# Altium footprint library HMC1001_PCB_FreeSize_V1_1.PcbLib: 28 footprints (part 2 of 2)
Each footprint in its own frame and in the unit in brackets; x right, y up, seen from the top. Pads: shape width x height; smd on the part's side, far side on the other; paste and mask are expansions set on the pad; w line width, h text height; cw(c..) or ccw(c..) is an arc to the next point about the centre after c.
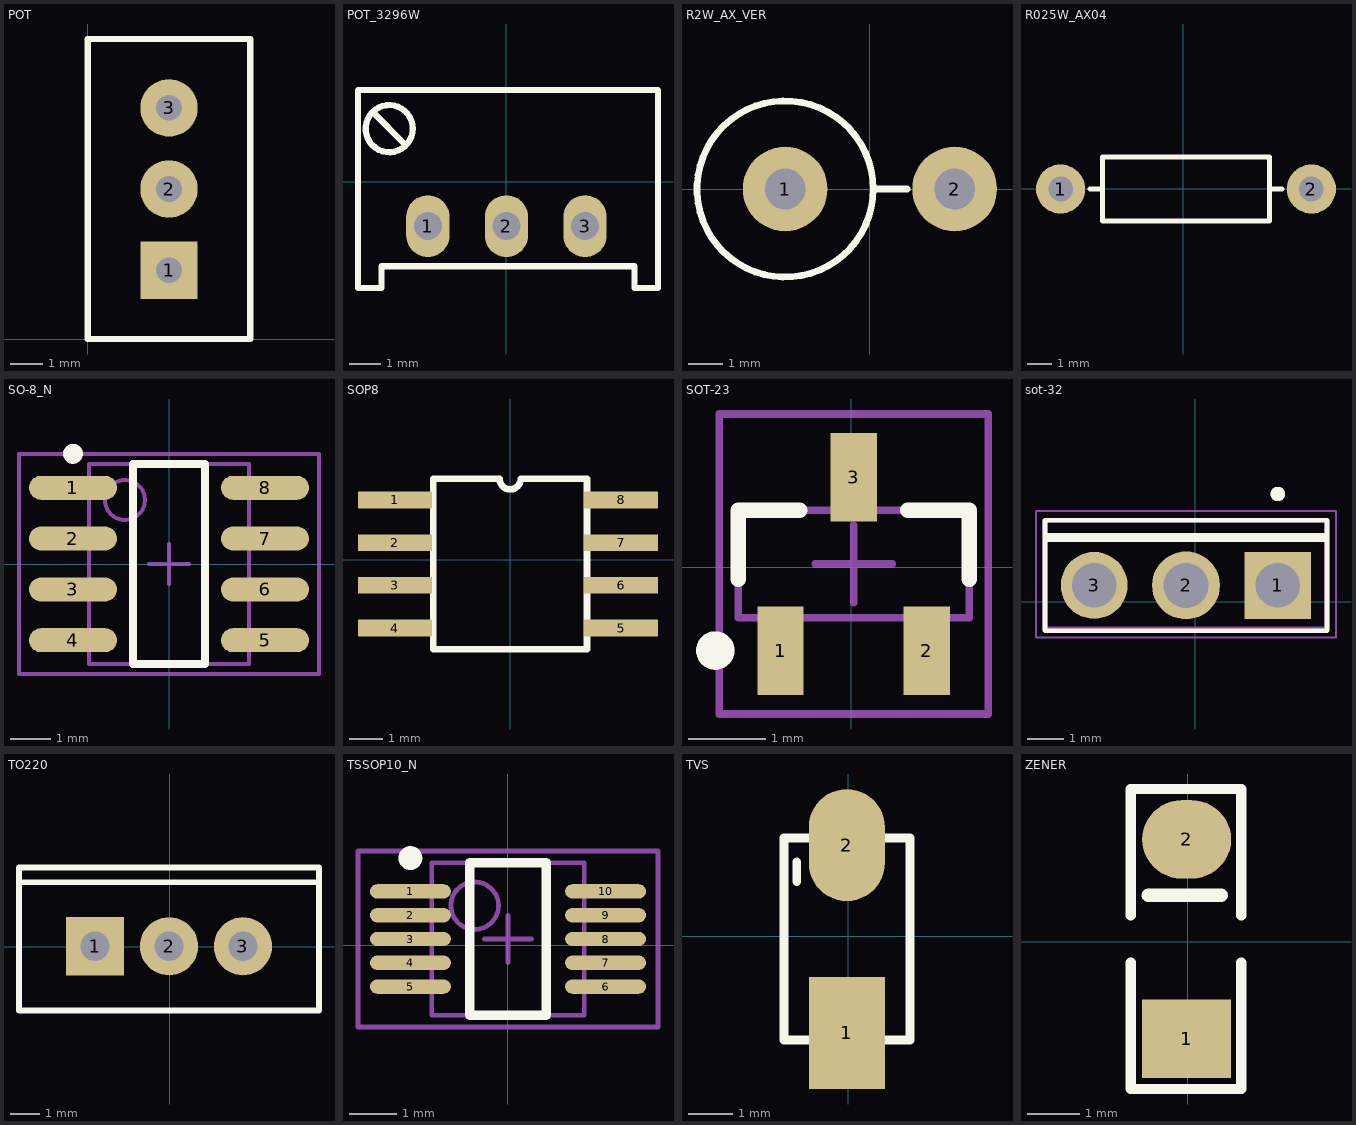
[diagram p1: the footprints below, top view; thin cyan lines are the x and y axes]

## POT [mm]
pads (3):
  rect 1.8x1.8 hole 0.8: 1(2.54,2.159)
  round 1.8 hole 0.8: 2(2.54,4.699) 3(2.54,7.239)
Top Overlay:
  lines w0.2: 0,0 5.08,0 5.08,9.398 0,9.398 0,0

## POT_3296W [mm] "POT, TRIM, 10.0X5.0mm, pitch: 2.5mm 3299W 3296W S64W"
pads (3):
  oval 1.4x2 / inner round 1.2 / far side oval 1.4x2 hole 0.9: 1(-2.537,-1.43) 2(0.003,-1.43) 3(2.543,-1.43)
Top Overlay:
  circle w0.2: c-3.788,1.721 r0.762
  lines w0.2: -4.296,2.229 -3.28,1.213 ; -4.797,-3.43 -4.797,2.97 4.903,2.97 4.903,-3.43 4.148,-3.43 4.148,-2.73 -4.042,-2.73 -4.042,-3.43 -4.797,-3.43
3D body: height 11.56, standoff -6.22, extent -4.722,-3.278 4.803,2.818

## R2W_AX_VER [mm] "RESISTOR 2 WATT, AXIAL0.8"
height 5.5
pads (2):
  round 2.5 hole 1.2: 1(-2.5,0) 2(2.5,0)
Top Overlay:
  circle w0.2: c-2.5,0 r2.6
  lines w0.2: 0.191,0 1.1,0
3D body: height 20.3, standoff -3.1, extent -5,-2.5 2.9,2.5

## R025W_AX04 [mm] "RESISTOR 1/4 WATT, AXIAL0.4"
pads (2):
  round 2 hole 1: 1(-4.997,-0.019) 2(5.203,-0.019)
Top Overlay:
  lines w0.2: -3.797,-0.019 -3.297,-0.019 ; 3.478,-1.319 -3.297,-1.319 -3.297,1.281 3.478,1.281 ; 3.503,-1.319 3.503,1.281 ; 3.503,-0.019 4.003,-0.019
3D body: height 2.6, standoff -2.54, extent -5.277,-1.296 5.483,1.258

## SO-8_N [mm] "SOIC, 8-Leads, Body 4.9x3.9mm, Pitch 1.27mm, IPC Medium Density"
height 1.75
pads (8):
  oval 2.2x0.6 smd: 1(-2.4,1.905) 2(-2.4,0.635) 3(-2.4,-0.635) 4(-2.4,-1.905) 5(2.4,-1.905) 6(2.4,-0.635) 7(2.4,0.635) 8(2.4,1.905)
Top Overlay:
  circle w0.25: c-2.4,2.755 r0.125
  lines w0.2: -0.9,-2.5 0.9,-2.5 0.9,2.5 -0.9,2.5 -0.9,-2.5
Mechanical 13:
  circle w0.1: c-1.1,1.6 r0.5
  lines w0.1: -2,-2.5 2,-2.5 2,2.5 -2,2.5 -2,-2.5
Mechanical 15:
  lines w0.1: -0.5,0 0.5,0 ; 0,-0.5 0,0.5 ; -3.75,-2.75 3.75,-2.75 3.75,2.75 -3.75,2.75 -3.75,-2.75
3D body: height 1.75, standoff 0, extent -2,-2.5 2,2.5

## SOP8 [mm]
pads (8):
  rect 2.2x0.5 smd: 1(-3.429,1.778) 2(-3.429,0.508) 3(-3.429,-0.762) 4(-3.429,-2.032) 5(3.298,-2.032) 6(3.298,-0.762) 7(3.298,0.508) 8(3.298,1.778)
Top Overlay:
  lines w0.2: -2.286,-2.667 -2.286,2.413 -0.32,2.413 ccw(c-0.002,2.413) 0.315,2.413 2.286,2.413 2.286,-2.667 -2.286,-2.667
3D body: height 1.7, standoff 0, extent -3.006,-2.564 2.994,2.336

## SOT-23 [mm]
pads (3):
  rect 0.6x1.15 smd: 1(-0.919,-1.081) 2(0.981,-1.081) 3(0.031,1.169)
Top Overlay:
  circle w0.25: c-1.769,-1.081 r0.125
  lines w0.2: -1.469,-0.156 -1.469,0.744 -0.669,0.744 ; 0.731,0.744 1.531,0.744 1.531,-0.156
Mechanical 13:
  lines w0.1: -1.469,-0.656 1.531,-0.656 1.531,0.744 -1.469,0.744 -1.469,-0.656
Mechanical 15:
  lines w0.1: -0.469,0.044 0.531,0.044 ; 0.031,-0.456 0.031,0.544 ; -1.719,-1.906 1.781,-1.906 1.781,1.994 -1.719,1.994 -1.719,-1.906
3D body: height 1, standoff 0, extent -1.419,-1.181 1.481,1.119

## sot-32 [mm]
pads (3):
  rect 1.85x1.85 hole 1.23: 1(2.286,0.457)
  round 1.88 hole 1.25: 2(-0.254,0.457)
  round 1.85 hole 1.23: 3(-2.794,0.457)
Top Overlay:
  circle w0.2: c2.286,2.984 r0.1
  lines w0.127: -4.154,-0.797 -4.154,2.262 3.646,2.262 3.646,-0.797 -4.154,-0.797
  lines w0.254: -4.064,1.778 3.556,1.778
Mechanical 13:
  circle w0.2: c2.286,2.984 r0.1
  lines w0.127: -4.154,-0.738 -4.154,2.262 3.646,2.262 3.646,-0.738 -4.154,-0.738
Mechanical 15:
  lines w0.05: -4.404,-0.988 -4.404,2.512 3.896,2.512 3.896,-0.988 -4.404,-0.988
3D body: height 13.6, standoff -4.35, extent -4.154,-0.635 3.646,2.065

## TO220 [mm]
pads (3):
  rect 2x2 hole 1: 1(-2.574,0.018)
  round 2 hole 1: 2(-0.034,0.018) 3(2.506,0.018)
Top Overlay:
  lines w0.2: -5.184,2.218 5.116,2.218 ; -5.184,-2.182 -5.184,2.718 5.116,2.718 5.116,-2.182 -5.184,-2.182
3D body: height 18.8, standoff -9.98, extent -4.95,-2.032 4.95,2.468

## TSSOP10_N [mm]
pads (10):
  oval 1.7x0.3 smd: 1(-2.05,1.127) 2(-2.05,0.627) 3(-2.05,0.127) 4(-2.05,-0.373) 5(-2.05,-0.873) 6(2.05,-0.873) 7(2.05,-0.373) 8(2.05,0.127) 9(2.05,0.627) 10(2.05,1.127)
Top Overlay:
  circle w0.25: c-2.05,1.827 r0.125
  lines w0.2: -0.8,-1.473 -0.8,1.727 0.8,1.727 0.8,-1.473 -0.8,-1.473
Mechanical 13:
  circle w0.1: c-0.7,0.827 r0.5
  lines w0.1: -1.6,-1.473 -1.6,1.727 1.6,1.727 1.6,-1.473 -1.6,-1.473
Mechanical 15:
  lines w0.1: -0.5,0.127 0.5,0.127 ; 0,-0.373 0,0.627 ; -3.15,-1.723 -3.15,1.977 3.15,1.977 3.15,-1.723 -3.15,-1.723
3D body: height 1.1, standoff 0, extent -1.6,-1.473 1.6,1.727

## TVS [mm]
pads (2):
  rect 1.7x2.5 smd: 1(-0.025,-2.159)
  oval 1.7x2.5 smd: 2(-0.025,2.032)
Top Overlay:
  lines w0.2: -1.143,1.219 -1.143,1.651 ; -1.422,-2.316 -1.422,2.184 1.378,2.184 1.378,-2.316 -1.422,-2.316
3D body: height 2.23, standoff 0, extent -1.502,1.803 1.422,2.007
3D body: height 2.2, standoff 0, extent -1.499,-2.54 1.421,2.515
3D body: height 1.5, standoff 0, extent -1.016,-2.756 0.965,-2.527
3D body: height 1.5, standoff 0, extent -1.016,2.515 0.965,2.743

## ZENER [mm]
pads (2):
  rect 1.7x1.5 smd mask+0.102: 1(-0.025,-1.854)
  oval 1.7x1.5 smd: 2(-0.025,1.956)
Top Overlay:
  lines w0.2: -1.092,-0.406 -1.092,-2.819 1.016,-2.819 1.016,-0.406 ; -1.092,0.508 -1.092,2.921 1.016,2.921 1.016,0.508
  lines w0.254: -0.762,0.889 0.635,0.889
3D body: height 1.6, standoff 0, extent -0.822,1.399 0.771,1.499
3D body: height 1.6, standoff 0, extent -0.822,-1.778 0.771,-1.378
3D body: height 1.6, standoff 0, extent -0.822,1.499 0.771,1.899
3D body: height 1.6, standoff 0, extent -0.822,-0.295 0.771,0.305
3D body: height 1.6, standoff 0, extent -0.822,0.297 0.771,1.397
3D body: height 1.6, standoff 0, extent -0.822,-1.379 0.771,-0.279